# EAGLE library part 5749721-7 (library Connector_D-Sub)
D-SUB, 68POS, RCPT, VERT SLDR Datasheet <https://www.te.com/commerce/DocumentDelivery/DDEController?Action=showdoc&DocId=Catalog+Section%7F82068_AMPLIMITE_.050_Series_Connector%7F0412%7Fpdf%7FEnglish%7FENG_CS_82068_AMPLIMITE_.050_Series_Connector_0412.pdf%7F5749721-7>
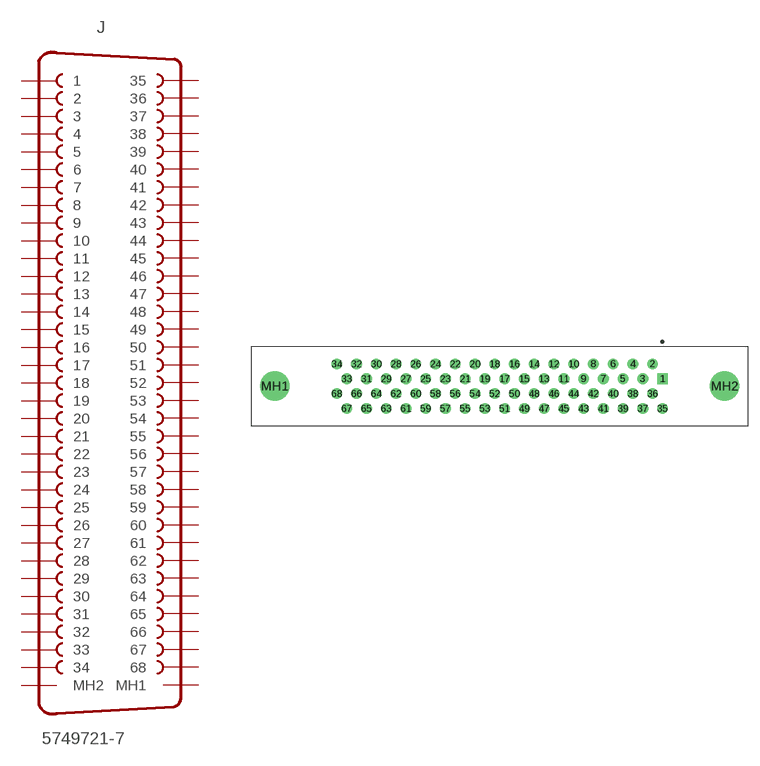
[diagram p13: symbol with the pads of 5749721-7; footprint 5749721-7]

Designator prefix J

## 5749721-7 (CATEGORY: Connector; DESCRIPTION: D-Sub High Density Connectors 050" 068R VRT PCB; GENDER: Female; MANUFACTURER: TE Connectivity; MPN: 5749721-7; OPERATING_TEMPERATURE: - 55 C to +105 C; PART_STATUS: ACTIVE; ROHS_COMPLIANT: COMPLIANT; SUB-CATEGORY: D-SUB; TYPE: Vertical; VALUE: D-TYPE-RCPT-68P)  [5749721-7]
1  1  pas
2  2  pas
3  3  pas
4  4  pas
5  5  pas
6  6  pas
7  7  pas
8  8  pas
9  9  pas
10  10  pas
11  11  pas
12  12  pas
13  13  pas
14  14  pas
15  15  pas
16  16  pas
17  17  pas
18  18  pas
19  19  pas
20  20  pas
21  21  pas
22  22  pas
23  23  pas
24  24  pas
25  25  pas
26  26  pas
27  27  pas
28  28  pas
29  29  pas
30  30  pas
31  31  pas
32  32  pas
33  33  pas
34  34  pas
35  35  pas
36  36  pas
37  37  pas
38  38  pas
39  39  pas
40  40  pas
41  41  pas
42  42  pas
43  43  pas
44  44  pas
45  45  pas
46  46  pas
47  47  pas
48  48  pas
49  49  pas
50  50  pas
51  51  pas
52  52  pas
53  53  pas
54  54  pas
55  55  pas
56  56  pas
57  57  pas
58  58  pas
59  59  pas
60  60  pas
61  61  pas
62  62  pas
63  63  pas
64  64  pas
65  65  pas
66  66  pas
67  67  pas
68  68  pas
MH1  MH1  sup
MH2  MH2  sup

## Footprint 5749721-7 (pad centres in mm)
5749721-7-1
drill 0.865 square: 1 0,0
drill 0.865: 2 -1.27,1.91; 3 -2.54,0; 4 -3.81,1.91; 5 -5.08,0; 6 -6.35,1.91; 7 -7.62,0; 8 -8.89,1.91; 9 -10.16,0; 10 -11.43,1.91; 11 -12.7,0; 12 -13.97,1.91; 13 -15.24,0; 14 -16.51,1.91; 15 -17.78,0; 16 -19.05,1.91; 17 -20.32,0; 18 -21.59,1.91; 19 -22.86,0; 20 -24.13,1.91; 21 -25.4,0; 22 -26.67,1.91; 23 -27.94,0; 24 -29.21,1.91; 25 -30.48,0; 26 -31.75,1.91; 27 -33.02,0; 28 -34.29,1.91; 29 -35.56,0; 30 -36.83,1.91; 31 -38.1,0; 32 -39.37,1.91; 33 -40.64,0; 34 -41.91,1.91; 35 0,-3.82; 36 -1.27,-1.91; 37 -2.54,-3.82; 38 -3.81,-1.91; 39 -5.08,-3.82; 40 -6.35,-1.91; 41 -7.62,-3.82; 42 -8.89,-1.91; 43 -10.16,-3.82; 44 -11.43,-1.91; 45 -12.7,-3.82; 46 -13.97,-1.91; 47 -15.24,-3.82; 48 -16.51,-1.91; 49 -17.78,-3.82; 50 -19.05,-1.91; 51 -20.32,-3.82; 52 -21.59,-1.91; 53 -22.86,-3.82; 54 -24.13,-1.91; 55 -25.4,-3.82; 56 -26.67,-1.91; 57 -27.94,-3.82; 58 -29.21,-1.91; 59 -30.48,-3.82; 60 -31.75,-1.91; 61 -33.02,-3.82; 62 -34.29,-1.91; 63 -35.56,-3.82; 64 -36.83,-1.91; 65 -38.1,-3.82; 66 -39.37,-1.91; 67 -40.64,-3.82; 68 -41.91,-1.91
drill 2.77: MH1 -49.91,-0.953; MH2 8,-0.953